# Altium footprint library 4007_SMD.PcbLib: 1 footprints
Each footprint in its own frame and in the unit in brackets; x right, y up, seen from the top. Pads: shape width x height; smd on the part's side, far side on the other; paste and mask are expansions set on the pad; w line width, h text height; cw(c..) or ccw(c..) is an arc to the next point about the centre after c.
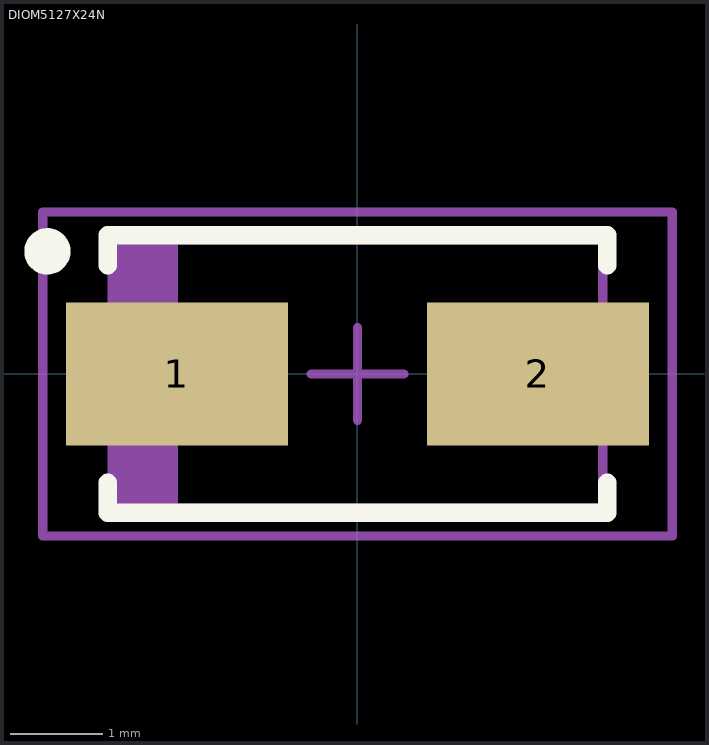
[diagram p0: the footprint, top view; thin cyan lines are the x and y axes]

## DIOM5127X24N [mm] "Molded Diode, 2-Leads, Body 5.1x2.7mm, IPC Medium Density"
height 2.4
pads (2):
  rect 2.4x1.55 smd: 1(-1.95,0) 2(1.95,0)
Top Overlay:
  circle w0.25: c-3.35,1.325 r0.125
  lines w0.2: -2.7,-1.175 -2.7,-1.5 2.7,-1.5 2.7,-1.175 ; -2.7,1.175 -2.7,1.5 2.7,1.5 2.7,1.175
Mechanical 13:
  rectangle: -2.65,-1.45 -1.937,1.45
  lines w0.1: -2.65,-1.45 2.65,-1.45 2.65,1.45 -2.65,1.45 -2.65,-1.45
Mechanical 15:
  lines w0.1: -0.5,0 0.5,0 ; 0,-0.5 0,0.5 ; -3.4,-1.75 3.4,-1.75 3.4,1.75 -3.4,1.75 -3.4,-1.75
3D body: height 2.4, standoff 0, extent -2.65,-1.45 2.65,1.45